# Altium footprint library PJ-047BH.PcbLib: 1 footprints
Each footprint in its own frame and in the unit in brackets; x right, y up, seen from the top. Pads: shape width x height; smd on the part's side, far side on the other; paste and mask are expansions set on the pad; w line width, h text height; cw(c..) or ccw(c..) is an arc to the next point about the centre after c.
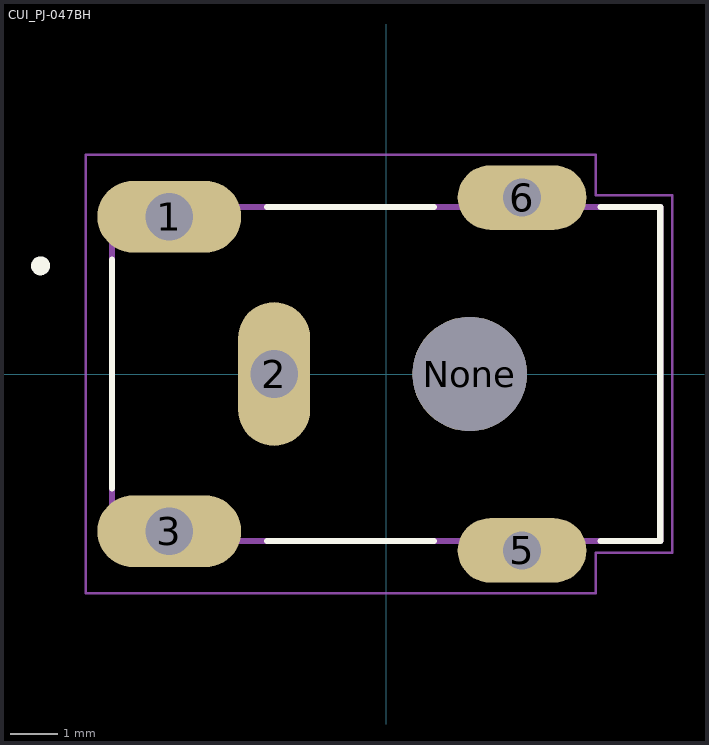
[diagram p0: the footprint, top view; thin cyan lines are the x and y axes]

## CUI_PJ-047BH [mm]
pads (6):
  oval 3.016x1.508 hole 1: 1(-4.55,3.3) 3(-4.55,-3.3)
  oval 1.508x3.016 hole 1: 2(-2.35,0)
  oval 2.7x1.35 hole 0.8: 5(2.85,-3.7) 6(2.85,3.7)
  round 2.4 hole 2.4 unplated: None(1.75,0)
Top Overlay:
  circle w0.2: c-7.25,2.27 r0.1
  lines w0.127: -5.75,-2.4 -5.75,2.4 ; -2.5,-3.5 1,-3.5 ; -2.5,3.5 1,3.5 ; 4.5,-3.5 5.75,-3.5 5.75,3.5 4.5,3.5
Mechanical 1:
  lines w0: -5.55,-3.8 -3.55,-3.8 -3.55,-2.8 -5.55,-2.8 -5.55,-3.8 ; -5.55,2.8 -3.55,2.8 -3.55,3.8 -5.55,3.8 -5.55,2.8 ; -2.85,-1 -2.85,1 -1.85,1 -1.85,-1 -2.85,-1 ; 1.65,-4.1 1.65,-3.3 4.05,-3.3 4.05,-4.1 1.65,-4.1 ; 1.65,3.3 1.65,4.1 4.05,4.1 4.05,3.3 1.65,3.3
Mechanical 4:
  lines w0.127: -5.75,-3.5 5.75,-3.5 ; -5.75,-3.5 -5.75,3.5 ; -5.75,-3.5 5.75,-3.5 ; -5.75,-3.5 -5.75,3.5 ; -5.75,3.5 5.75,3.5 ; -5.75,3.5 5.75,3.5 ; 5.75,-3.5 5.75,3.5 ; 5.75,-3.5 5.75,3.5
Mechanical 16:
  lines w0.05: -6.3,-4.6 4.4,-4.6 4.4,-3.75 6,-3.75 6,3.75 4.4,3.75 4.4,4.6 -6.3,4.6 -6.3,-4.6